# EAGLE library part 3.3V-DEVICE (library SparkFun)
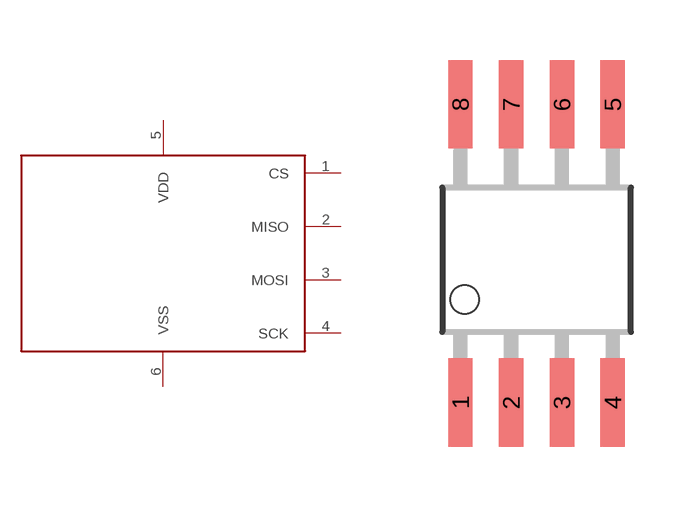
[diagram p88: symbol with the pads of SO08WIDE; footprint SO08WIDE]

Designator prefix -

## 3.3V-DEVICE  [SO08WIDE]
1  CS
2  MISO
3  MOSI
4  SCK
5  VDD
6  VSS

## Footprint SO08WIDE (pad centres in mm)
smd 0.61 x 2.21: 1 -1.905,-3.569; 2 -0.635,-3.569; 3 0.635,-3.569; 4 1.905,-3.569; 5 1.905,3.886; 6 0.635,3.886; 7 -0.635,3.886; 8 -1.905,3.886